# Altium integrated library S9141-45R.IntLib: 1 symbol
Pins are listed as number, name and electrical type; pins without a type are passive.

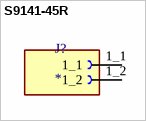
[diagram p0: symbol S9141-45R]

## S9141-45R
designator J?
MP: S9141-45R; Package: None; Price: None; Value: *; Availability: Unavailable
footprint HARWIN_S9141-45R
pins: 1_1, 1_2